# Altium schematic symbol library sym-0032.SchLib: 1 symbol
Pins are listed as number, name and electrical type; pins without a type are passive.

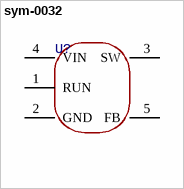
[diagram p0: symbol sym-0032]

## sym-0032
designator U?
M3406-ADJ
pins: 1 RUN, 2 GND, 3 SW, 4 VIN, 5 FB